# Altium footprint library LINUX.PcbLib: 113 footprints (part 2 of 8)
Each footprint in its own frame and in the unit in brackets; x right, y up, seen from the top. Pads: shape width x height; smd on the part's side, far side on the other; paste and mask are expansions set on the pad; w line width, h text height; cw(c..) or ccw(c..) is an arc to the next point about the centre after c.
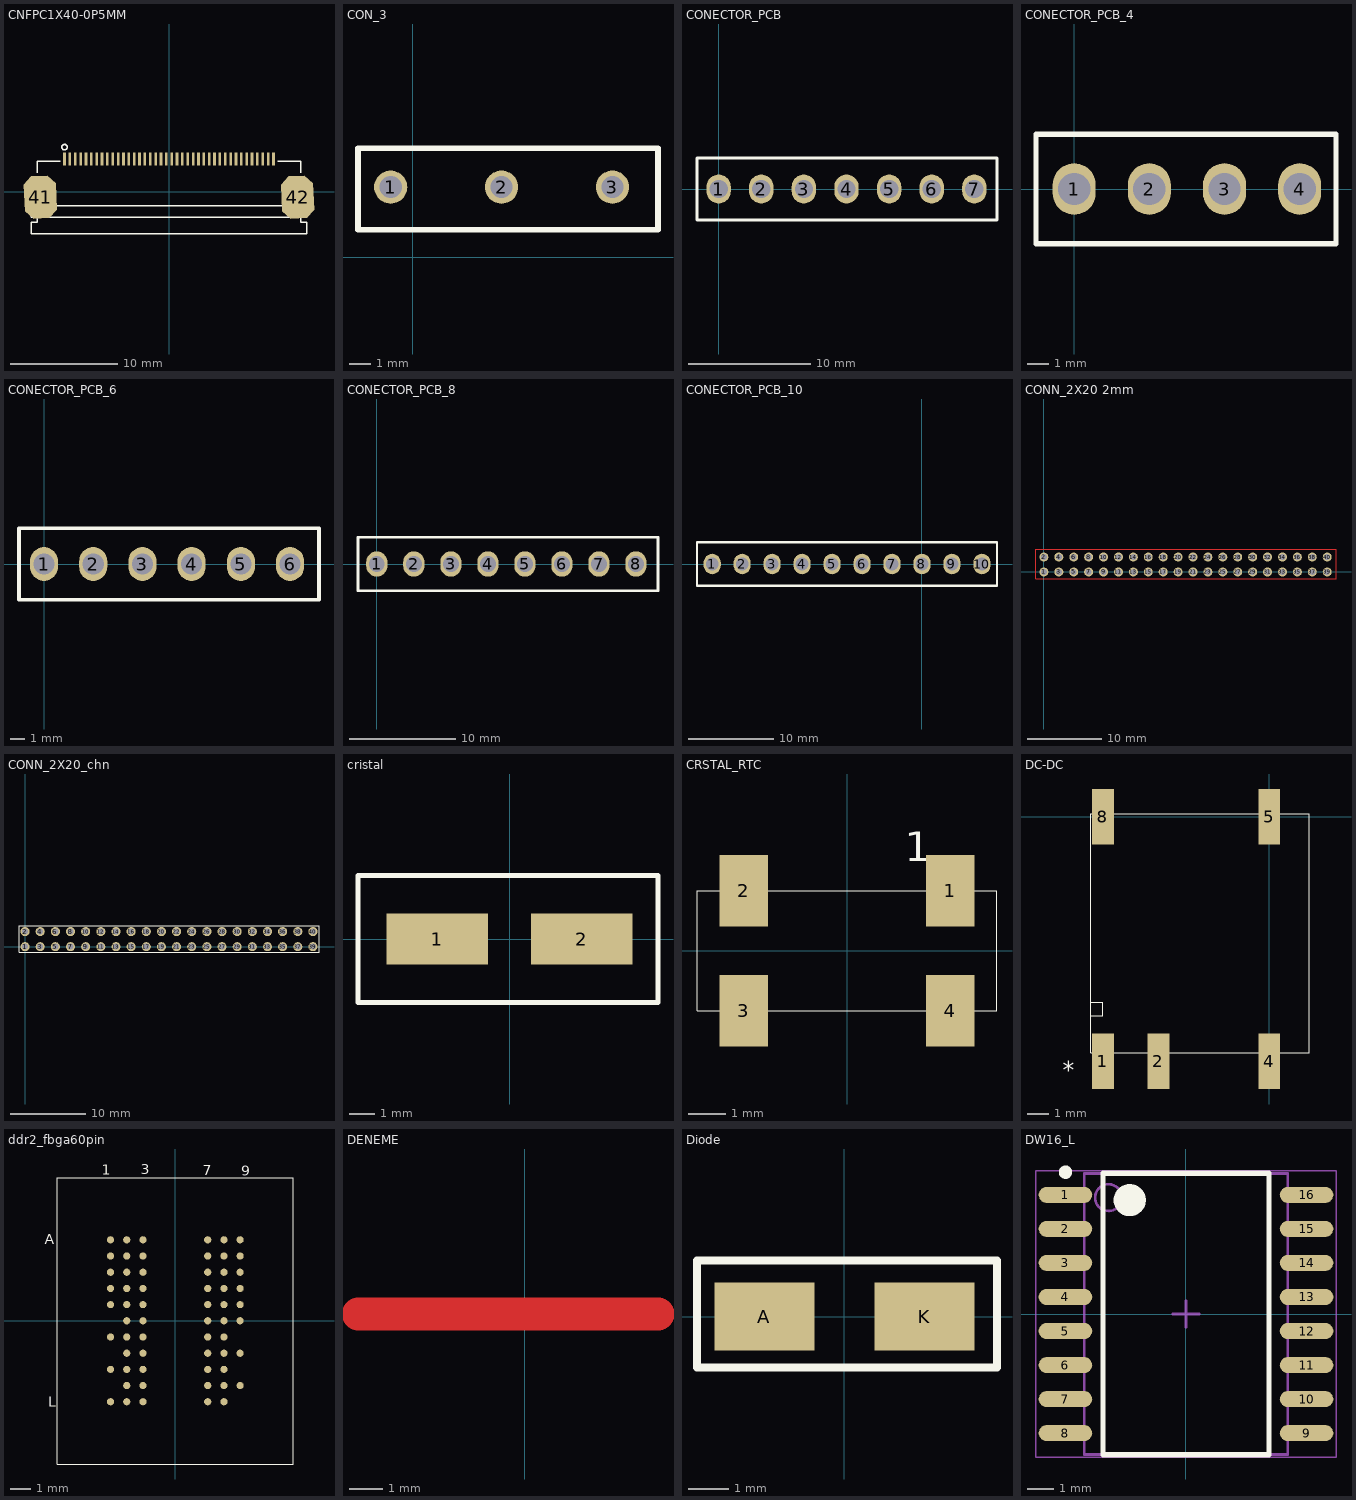
[diagram p1: the footprints below, top view; thin cyan lines are the x and y axes]

## CNFPC1X40-0P5MM [mil] "CNFPC1X40-0P5MM"
pads (42):
  rect 9.84x47.24 smd mask+5.91: 1(-383.86,120) 2(-364.17,120) 3(-344.49,120) 4(-324.8,120) 5(-305.12,120) 6(-285.43,120) 7(-265.75,120) 8(-246.06,120) 9(-226.38,120) 10(-206.69,120) 11(-187.01,120) 12(-167.32,120) 13(-147.64,120) 14(-127.95,120) 15(-108.27,120) 16(-88.58,120) 17(-68.9,120) 18(-49.21,120) 19(-29.53,120) 20(-9.84,120) 21(9.84,120) 22(29.53,120) 23(49.21,120) 24(68.9,120) 25(88.58,120) 26(108.27,120) 27(127.95,120) 28(147.64,120) 29(167.32,120) 30(187.01,120) 31(206.69,120) 32(226.38,120) 33(246.06,120) 34(265.75,120) 35(285.43,120) 36(305.12,120) 37(324.8,120) 38(344.49,120) 39(364.17,120) 40(383.86,120)
  oct 118.11x157.48 smd rot 3 mask+5.91: 41(-472.44,-19.68) 42(472.44,-19.68)
Top Overlay:
  circle w5: c-383.86,164.29 r10
  lines w5: -483.27,-43.55 -483.27,-112.29 -506.89,-112.29 -506.89,-153.62 506.89,-153.62 506.89,-112.29 483.27,-112.29 483.27,-43.55 ; -483.27,70.94 -483.27,112.12 -398.78,112.12 ; 398.78,112.12 483.27,112.12 483.27,70.94 ; -506.89,-92.6 506.89,-92.6 506.89,-51.26 -506.89,-51.26 -506.89,-92.6

## CON_3 [mil]
pads (3):
  round 60 hole 40: 1(-39.37,126.38) 2(160.63,126.38) 3(360.63,126.38)
Top Overlay:
  lines w10: -98.43,49.21 442.91,49.21 442.91,196.85 -98.43,196.85 -98.43,49.21

## CONECTOR_PCB [mm]
pads (7):
  oval 2x2.4 hole 1.5: 1(0,0) 2(3.5,0) 3(7,0) 4(10.5,0) 5(14,0) 6(17.5,0) 7(21,0)
Top Overlay:
  lines w0.254: -1.778,-2.54 22.86,-2.54 22.86,2.54 -1.778,2.54 -1.778,-2.54

## CONECTOR_PCB_4 [mm]
pads (4):
  oval 2x2.4 hole 1.5: 1(0,0) 2(3.5,0) 3(7,0) 4(10.5,0)
Top Overlay:
  lines w0.254: -1.778,-2.54 -1.778,2.54 12.192,2.54 12.192,-2.54 -1.778,-2.54

## CONECTOR_PCB_6 [mm]
pads (6):
  oval 2x2.4 hole 1.5: 1(0,0) 2(3.5,0) 3(7,0) 4(10.5,0) 5(14,0) 6(17.5,0)
Top Overlay:
  lines w0.254: -1.778,-2.54 -1.778,2.54 19.558,2.54 19.558,-2.54 -1.778,-2.54

## CONECTOR_PCB_8 [mm]
pads (8):
  oval 2x2.4 hole 1.5: 1(0,0) 2(3.5,0) 3(7,0) 4(10.5,0) 5(14,0) 6(17.5,0) 7(21,0) 8(24.5,0)
Top Overlay:
  lines w0.254: -1.778,-2.54 -1.778,2.54 26.588,2.54 26.588,-2.54 -1.778,-2.54

## CONECTOR_PCB_10 [mm]
pads (10):
  oval 2x2.4 hole 1.5: 1(-24.5,0) 2(-21,0) 3(-17.5,0) 4(-14,0) 5(-10.5,0) 6(-7,0) 7(-3.5,0) 8(0,0) 9(3.5,0) 10(7,0)
Top Overlay:
  lines w0.254: -26.278,-2.54 -26.278,2.54 8.763,2.54 8.763,-2.54 8.636,-2.54 -26.278,-2.54

## CONN_2X20 2mm [mm]
pads (40):
  round 1.2 hole 0.8: 1(0,0) 2(0,2) 3(2,0) 4(2,2) 5(4,0) 6(4,2) 7(6,0) 8(6,2) 9(8,0) 10(8,2) 11(10,0) 12(10,2) 13(12,0) 14(12,2) 15(14,0) 16(14,2) 17(16,0) 18(16,2) 19(18,0) 20(18,2) 21(20,0) 22(20,2) 23(22,0) 24(22,2) 25(24,0) 26(24,2) 27(26,0) 28(26,2) 29(28,0) 30(28,2) 31(30,0) 32(30,2) 33(32,0) 34(32,2) 35(34,0) 36(34,2) 37(36,0) 38(36,2) 39(38,0) 40(38,2)
Top Layer:
  lines w0.1: -1.06,-0.92 -1.04,-0.94 39.18,-0.94 39.18,3.08 -1.06,3.08 -1.06,-0.92

## CONN_2X20_chn [mm]
pads (40):
  round 1.2 hole 0.8: 1(0,0) 2(0,2) 3(2,0) 4(2,2) 5(4,0) 6(4,2) 7(6,0) 8(6,2) 9(8,0) 10(8,2) 11(10,0) 12(10,2) 13(12,0) 14(12,2) 15(14,0) 16(14,2) 17(16,0) 18(16,2) 19(18,0) 20(18,2) 21(20,0) 22(20,2) 23(22,0) 24(22,2) 25(24,0) 26(24,2) 27(26,0) 28(26,2) 29(28,0) 30(28,2) 31(30,0) 32(30,2) 33(32,0) 34(32,2) 35(34,0) 36(34,2) 37(36,0) 38(36,2) 39(38,0) 40(38,2)
Top Overlay:
  lines w0.1: -0.8,-0.762 -0.8,2.794 38.8,2.794 38.8,-0.762 -0.8,-0.762

## cristal [mm]
pads (2):
  rect 4x2 smd: 1(-2.845,0) 2(2.845,0)
Top Overlay:
  lines w0.2: -5.969,-2.5 5.842,-2.5 5.842,2.5 -5.969,2.5 -5.969,1.761 -5.969,-2.5

## CRSTAL_RTC [mm] "MC-306"
pads (4):
  rect 1.3x1.9 smd: 1(2.75,1.6) 2(-2.75,1.6) 3(-2.75,-1.6) 4(2.75,-1.6)
Top Overlay:
  lines w0.025: -4,-1.6 -4,1.6 4,1.6 4,-1.6 -4,-1.6
  text "1" at 1.536,2.383 h0.79

## DC-DC [mm] "U_16_D"
pads (5):
  rect 1x2.54 smd: 1(-7.62,-11.2) 2(-5.08,-11.2) 4(0,-11.2) 5(0,0) 8(-7.62,0)
Top Overlay:
  lines w0.025: -8.179,-10.807 -8.179,0.127 1.829,0.127 1.829,-10.807 -8.179,-10.807 ; -8.179,-9.105 -8.179,-8.495 -7.62,-8.495 -7.62,-9.105 -8.179,-9.105
  text "*" at -9.459,-11.975 h0.79

## ddr2_fbga60pin [mil] "DDR2_FBGA60PIN"
pads (60):
  round 14 smd: A1(-125.98,157.48) A2(-94.49,157.48) A3(-62.99,157.48) A7(62.99,157.48) A8(94.49,157.48) A9(125.98,157.48) B1(-125.98,125.98) B2(-94.49,125.98) B3(-62.99,125.98) B7(62.99,125.98) B8(94.49,125.98) B9(125.98,125.98) C1(-125.98,94.49) C2(-94.49,94.49) C3(-62.99,94.49) C7(62.99,94.49) C8(94.49,94.49) C9(125.98,94.49) D1(-125.98,62.99) D2(-94.49,62.99) D3(-62.99,62.99) D7(62.99,62.99) D8(94.49,62.99) D9(125.98,62.99) E1(-125.98,31.5) E2(-94.49,31.5) E3(-62.99,31.5) E7(62.99,31.5) E8(94.49,31.5) E9(125.98,31.5) F2(-94.49,0) F3(-62.99,0) F7(62.99,0) F8(94.49,0) F9(125.98,0) G1(-125.98,-31.5) G2(-94.49,-31.5) G3(-62.99,-31.5) G7(62.99,-31.5) G8(94.49,-31.5) H2(-94.49,-62.99) H3(-62.99,-62.99) H7(62.99,-62.99) H8(94.49,-62.99) H9(125.98,-62.99) J1(-125.98,-94.49) J2(-94.49,-94.49) J3(-62.99,-94.49) J7(62.99,-94.49) J8(94.49,-94.49) K2(-94.49,-125.98) K3(-62.99,-125.98) K7(62.99,-125.98) K8(94.49,-125.98) K9(125.98,-125.98) L1(-125.98,-157.48) L2(-94.49,-157.48) L3(-62.99,-157.48) L7(62.99,-157.48) L8(94.49,-157.48)
Top Overlay:
  lines w1: -229.33,-278.54 -229.33,278.54 229.33,278.54 229.33,-278.54 -229.33,-278.54
  text "L" at -247,-167 h20
  text "A" at -254,149 h20
  text "9" at 128,282 h20
  text "7" at 53,283 h20
  text "3" at -67,285 h20
  text "1" at -143,284 h20

## DENEME [mm]
Top Layer:
  lines w1: -5,0 4,0
Top Solder:
  lines w2: -5,0 4,0

## Diode [mm]
pads (2):
  rect 2.5x1.7 smd: A(-2,0) K(2,0)
Top Overlay:
  lines w0.2: -3.683,-1.27 -3.683,1.397 3.81,1.397 3.81,-1.27 -3.683,-1.27

## DW16_L [mm] "SOIC, 16-Leads, Body 10.3x7.5mm, Pitch 1.27mm, IPC High Density"
height 2.64
pads (16):
  oval 2x0.6 smd: 1(-4.5,4.445) 2(-4.5,3.175) 3(-4.5,1.905) 4(-4.5,0.635) 5(-4.5,-0.635) 6(-4.5,-1.905) 7(-4.5,-3.175) 8(-4.5,-4.445) 9(4.5,-4.445) 10(4.5,-3.175) 11(4.5,-1.905) 12(4.5,-0.635) 13(4.5,0.635) 14(4.5,1.905) 15(4.5,3.175) 16(4.5,4.445)
Top Overlay:
  circle w0.6: c-2.1,4.25 r0.3
  circle w0.25: c-4.5,5.295 r0.125
  lines w0.2: -3.1,-5.25 3.1,-5.25 3.1,5.25 -3.1,5.25 -3.1,-5.25
Mechanical 13:
  circle w0.1: c-2.895,4.345 r0.5
  lines w0.1: -3.795,-5.245 3.795,-5.245 3.795,5.245 -3.795,5.245 -3.795,-5.245
Mechanical 15:
  lines w0.05: -5.6,-5.35 5.6,-5.35 5.6,5.35 -5.6,5.35 -5.6,-5.35
  lines w0.1: -0.5,0 0.5,0 ; 0,-0.5 0,0.5